# Altium schematic symbol library 0603-LED-GREEN.SchLib: 1 symbol
Pins are listed as number, name and electrical type; pins without a type are passive.

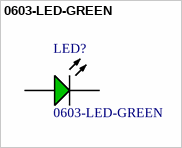
[diagram p0: symbol 0603-LED-GREEN]

## 0603-LED-GREEN
designator LED?
0603 ,LED,GREEN
footprint LED-0603-GREEN (0603,LED,GREEN)
pins: 1 K, 2 A